# Altium schematic symbol library RP2040Library.SchLib: 2 symbols
Pins are listed as number, name and electrical type; pins without a type are passive.

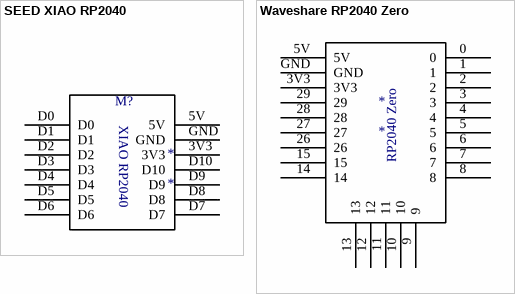
[diagram p0: symbols SEED XIAO RP2040 to Waveshare RP2040 Zero]

## SEED XIAO RP2040
designator *
pins: 3V3, 5V, D0, D1, D2, D3, D4, D5, D6, D7, D8, D9, D10, GND
text: M?; XIAO RP2040

## Waveshare RP2040 Zero
designator *
pins: 0, 1, 2, 3, 3V3, 4, 5, 5V, 6, 7, 8, 9, 10, 11, 12, 13, 14, 15, 26, 27, 28, 29, GND
text: RP2040 Zero